# EAGLE library part FONA808 (library jos-ph)
Adafruit FONA 808 https://learn.adafruit.com/adafruit-fona-808-cellular-plus-gps-breakout/overview
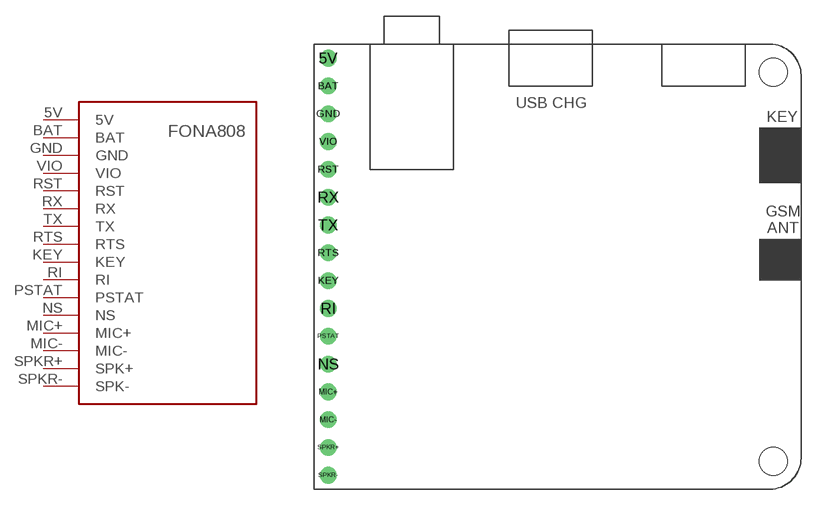
[diagram p0: symbol with the pads of FONA808; footprint FONA808]

Designator prefix -

## FONA808  [FONA808]
5V  5V
BAT  BAT
GND  GND
KEY  KEY
MIC+  MIC+
MIC-  MIC-
NS  NS
PSTAT  PSTAT
RI  RI
RST  RST
RTS  RTS
RX  RX
SPKR+  SPK+
SPKR-  SPK-
TX  TX
VIO  VIO

## Footprint FONA808 (pad centres in mm)
FONA 808
drill 1.016: 5V -21.59,19.05; BAT -21.59,16.51; GND -21.59,13.97; KEY -21.59,-1.27; MIC+ -21.59,-11.43; MIC- -21.59,-13.97; NS -21.59,-8.89; PSTAT -21.59,-6.35; RI -21.59,-3.81; RST -21.59,8.89; RTS -21.59,1.27; RX -21.59,6.35; SPKR+ -21.59,-16.51; SPKR- -21.59,-19.05; TX -21.59,3.81; VIO -21.59,11.43
hole 2.54 at 19.05,17.78
hole 2.54 at 19.05,-17.78